# Altium schematic symbol library WE-TPC.SchLib: 258 symbols (part 2 of 5)
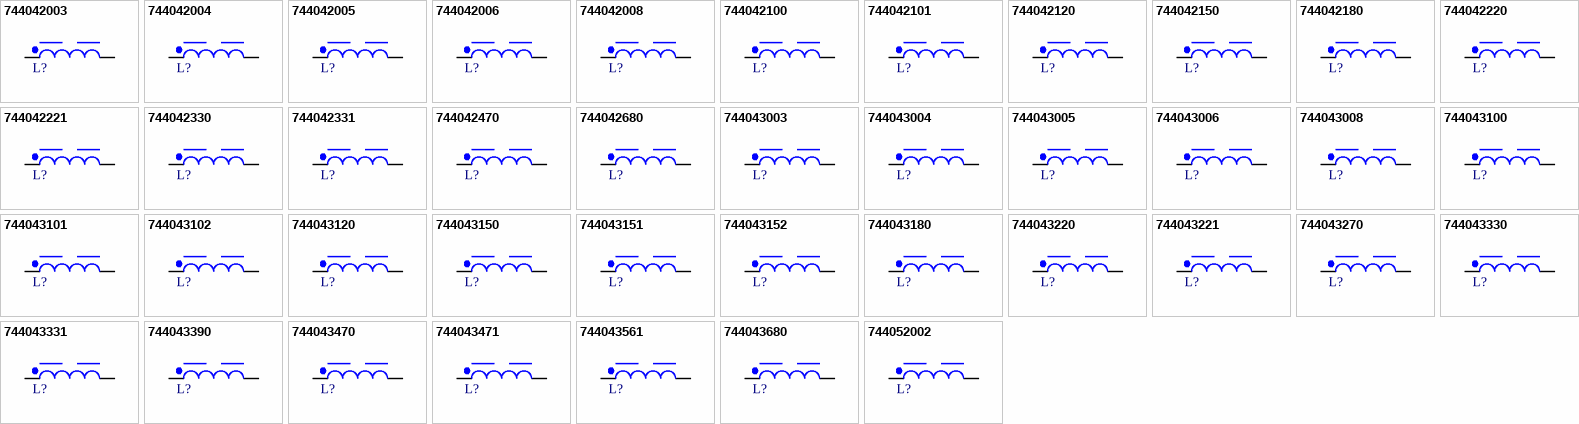
[diagram p7: symbols 744042003 to 744052002]

## 744043005
designator L?, comment 5.6uH, 1.38A  (value not drawn)
WE-TPC SMT Tiny Power Inductor, size 4828, 5.6uH, 1.38A, 70mOhm; Manufacturer Part Number: 744043005; Manufacturer: Wurth Elektronik; Case/Size Code: 4828; Saturation Current: 1.3A; Self Resonant Frequency: 60MHz; Category: Power Inductors; Match Code: WE-TPC; ComponentLink1Description: Website Link; ComponentLink1URL: https://www.we-online.com/redexpert/article/744043005?ad; ComponentLink2Description: Datasheet Link; ComponentLink2URL: https://www.we-online.com/redexpert/spec/744043005?ad; Mount: Surface Mount; Operating Temperature Max: 125°C; Operating Temperature Min: -40°C; Packaging: Tape and Reel; Length: 4.8mm; Width: 4.8mm; Height: 2.8mm; DC Resistance: 70mOhm; Inductance: 5.6uH; Rated Current: 1.38A
footprint WE-TPC_4828
simulation model 4828_744043005_5.6u
pins: 1, 2

## 744043006
designator L?, comment 6.8uH, 1.3A  (value not drawn)
WE-TPC SMT Tiny Power Inductor, size 4828, 6.8uH, 1.3A, 80mOhm; Manufacturer Part Number: 744043006; Manufacturer: Wurth Elektronik; Case/Size Code: 4828; Saturation Current: 1.25A; Self Resonant Frequency: 57MHz; Category: Power Inductors; Match Code: WE-TPC; ComponentLink1Description: Website Link; ComponentLink1URL: https://www.we-online.com/redexpert/article/744043006?ad; ComponentLink2Description: Datasheet Link; ComponentLink2URL: https://www.we-online.com/redexpert/spec/744043006?ad; Mount: Surface Mount; Operating Temperature Max: 125°C; Operating Temperature Min: -40°C; Packaging: Tape and Reel; Length: 4.8mm; Width: 4.8mm; Height: 2.8mm; DC Resistance: 80mOhm; Inductance: 6.8uH; Rated Current: 1.3A
footprint WE-TPC_4828
simulation model 4828_744043006_6.8u
pins: 1, 2

## 744043008
designator L?, comment 8.2uH, 1.3A  (value not drawn)
WE-TPC SMT Tiny Power Inductor, size 4828, 8.2uH, 1.3A, 80mOhm; Manufacturer Part Number: 744043008; Manufacturer: Wurth Elektronik; Case/Size Code: 4828; Saturation Current: 1.25A; Self Resonant Frequency: 35MHz; Category: Power Inductors; Match Code: WE-TPC; ComponentLink1Description: Website Link; ComponentLink1URL: https://www.we-online.com/redexpert/article/744043008?ad; ComponentLink2Description: Datasheet Link; ComponentLink2URL: https://www.we-online.com/redexpert/spec/744043008?ad; Mount: Surface Mount; Operating Temperature Max: 125°C; Operating Temperature Min: -40°C; Packaging: Tape and Reel; Length: 4.8mm; Width: 4.8mm; Height: 2.8mm; DC Resistance: 80mOhm; Inductance: 8.2uH; Rated Current: 1.3A
footprint WE-TPC_4828
simulation model 4828_744043008_8.2u
pins: 1, 2

## 744043100
designator L?, comment 10uH, 1.19A  (value not drawn)
WE-TPC SMT Tiny Power Inductor, size 4828, 10uH, 1.19A, 95mOhm; Manufacturer Part Number: 744043100; Manufacturer: Wurth Elektronik; Case/Size Code: 4828; Saturation Current: 1A; Self Resonant Frequency: 40MHz; Category: Power Inductors; Match Code: WE-TPC; ComponentLink1Description: Website Link; ComponentLink1URL: https://www.we-online.com/redexpert/article/744043100?ad; ComponentLink2Description: Datasheet Link; ComponentLink2URL: https://www.we-online.com/redexpert/spec/744043100?ad; Mount: Surface Mount; Operating Temperature Max: 125°C; Operating Temperature Min: -40°C; Packaging: Tape and Reel; Length: 4.8mm; Width: 4.8mm; Height: 2.8mm; DC Resistance: 95mOhm; Inductance: 10uH; Rated Current: 1.19A
footprint WE-TPC_4828
simulation model 4828_744043100_10u
pins: 1, 2

## 744043101
designator L?, comment 100uH, 0.51A  (value not drawn)
WE-TPC SMT Tiny Power Inductor, size 4828, 100uH, 0.51A, 550mOhm; Manufacturer Part Number: 744043101; Manufacturer: Wurth Elektronik; Case/Size Code: 4828; Saturation Current: 0.29A; Self Resonant Frequency: 11MHz; Category: Power Inductors; Match Code: WE-TPC; ComponentLink1Description: Website Link; ComponentLink1URL: https://www.we-online.com/redexpert/article/744043101?ad; ComponentLink2Description: Datasheet Link; ComponentLink2URL: https://www.we-online.com/redexpert/spec/744043101?ad; Mount: Surface Mount; Operating Temperature Max: 125°C; Operating Temperature Min: -40°C; Packaging: Tape and Reel; Length: 4.8mm; Width: 4.8mm; Height: 2.8mm; DC Resistance: 550mOhm; Inductance: 100uH; Rated Current: 0.51A
footprint WE-TPC_4828
simulation model 4828_744043101_100u
pins: 1, 2

## 744043102
designator L?, comment 1000uH, 0.14A  (value not drawn)
WE-TPC SMT Tiny Power Inductor, size 4828, 1000uH, 0.14A, 5400mOhm; Manufacturer Part Number: 744043102; Manufacturer: Wurth Elektronik; Case/Size Code: 4828; Saturation Current: 0.08A; Self Resonant Frequency: 2.3MHz; Category: Power Inductors; Match Code: WE-TPC; ComponentLink1Description: Website Link; ComponentLink1URL: https://www.we-online.com/redexpert/article/744043102?ad; ComponentLink2Description: Datasheet Link; ComponentLink2URL: https://www.we-online.com/redexpert/spec/744043102?ad; Mount: Surface Mount; Operating Temperature Max: 125°C; Operating Temperature Min: -40°C; Packaging: Tape and Reel; Length: 4.8mm; Width: 4.8mm; Height: 2.8mm; DC Resistance: 5400mOhm; Inductance: 1000uH; Rated Current: 0.14A
footprint WE-TPC_4828
simulation model 4828_744043102_1000u
pins: 1, 2

## 744043120
designator L?, comment 12uH, 1.12A  (value not drawn)
WE-TPC SMT Tiny Power Inductor, size 4828, 12uH, 1.12A, 100mOhm; Manufacturer Part Number: 744043120; Manufacturer: Wurth Elektronik; Case/Size Code: 4828; Saturation Current: 0.95A; Self Resonant Frequency: 30MHz; Category: Power Inductors; Match Code: WE-TPC; ComponentLink1Description: Website Link; ComponentLink1URL: https://www.we-online.com/redexpert/article/744043120?ad; ComponentLink2Description: Datasheet Link; ComponentLink2URL: https://www.we-online.com/redexpert/spec/744043120?ad; Mount: Surface Mount; Operating Temperature Max: 125°C; Operating Temperature Min: -40°C; Packaging: Tape and Reel; Length: 4.8mm; Width: 4.8mm; Height: 2.8mm; DC Resistance: 100mOhm; Inductance: 12uH; Rated Current: 1.12A
footprint WE-TPC_4828
simulation model 4828_744043120_12u
pins: 1, 2

## 744043150
designator L?, comment 15uH, 1.03A  (value not drawn)
WE-TPC SMT Tiny Power Inductor, size 4828, 15uH, 1.03A, 120mOhm; Manufacturer Part Number: 744043150; Manufacturer: Wurth Elektronik; Case/Size Code: 4828; Saturation Current: 0.75A; Self Resonant Frequency: 25MHz; Category: Power Inductors; Match Code: WE-TPC; ComponentLink1Description: Website Link; ComponentLink1URL: https://www.we-online.com/redexpert/article/744043150?ad; ComponentLink2Description: Datasheet Link; ComponentLink2URL: https://www.we-online.com/redexpert/spec/744043150?ad; Mount: Surface Mount; Operating Temperature Max: 125°C; Operating Temperature Min: -40°C; Packaging: Tape and Reel; Length: 4.8mm; Width: 4.8mm; Height: 2.8mm; DC Resistance: 120mOhm; Inductance: 15uH; Rated Current: 1.03A
footprint WE-TPC_4828
simulation model 4828_744043150_15u
pins: 1, 2

## 744043151
designator L?, comment 150uH, 0.42A  (value not drawn)
WE-TPC SMT Tiny Power Inductor, size 4828, 150uH, 0.42A, 770mOhm; Manufacturer Part Number: 744043151; Manufacturer: Wurth Elektronik; Case/Size Code: 4828; Saturation Current: 0.22A; Self Resonant Frequency: 7MHz; Category: Power Inductors; Match Code: WE-TPC; ComponentLink1Description: Website Link; ComponentLink1URL: https://www.we-online.com/redexpert/article/744043151?ad; ComponentLink2Description: Datasheet Link; ComponentLink2URL: https://www.we-online.com/redexpert/spec/744043151?ad; Mount: Surface Mount; Operating Temperature Max: 125°C; Operating Temperature Min: -40°C; Packaging: Tape and Reel; Length: 4.8mm; Width: 4.8mm; Height: 2.8mm; DC Resistance: 770mOhm; Inductance: 150uH; Rated Current: 0.42A
footprint WE-TPC_4828
simulation model 4828_744043151_150u
pins: 1, 2

## 744043152
designator L?, comment 1500uH, 0.09A  (value not drawn)
WE-TPC SMT Tiny Power Inductor, size 4828, 1500uH, 0.09A, 6800mOhm; Manufacturer Part Number: 744043152; Manufacturer: Wurth Elektronik; Case/Size Code: 4828; Saturation Current: 0.05A; Self Resonant Frequency: 2MHz; Category: Power Inductors; Match Code: WE-TPC; ComponentLink1Description: Website Link; ComponentLink1URL: https://www.we-online.com/redexpert/article/744043152?ad; ComponentLink2Description: Datasheet Link; ComponentLink2URL: https://www.we-online.com/redexpert/spec/744043152?ad; Mount: Surface Mount; Operating Temperature Max: 125°C; Operating Temperature Min: -40°C; Packaging: Tape and Reel; Length: 4.8mm; Width: 4.8mm; Height: 2.8mm; DC Resistance: 6800mOhm; Inductance: 1500uH; Rated Current: 0.09A
footprint WE-TPC_4828
simulation model 4828_744043152_1500u
pins: 1, 2

## 744043180
designator L?, comment 18uH, 0.98A  (value not drawn)
WE-TPC SMT Tiny Power Inductor, size 4828, 18uH, 0.98A, 150mOhm; Manufacturer Part Number: 744043180; Manufacturer: Wurth Elektronik; Case/Size Code: 4828; Saturation Current: 0.7A; Self Resonant Frequency: 25MHz; Category: Power Inductors; Match Code: WE-TPC; ComponentLink1Description: Website Link; ComponentLink1URL: https://www.we-online.com/redexpert/article/744043180?ad; ComponentLink2Description: Datasheet Link; ComponentLink2URL: https://www.we-online.com/redexpert/spec/744043180?ad; Mount: Surface Mount; Operating Temperature Max: 125°C; Operating Temperature Min: -40°C; Packaging: Tape and Reel; Length: 4.8mm; Width: 4.8mm; Height: 2.8mm; DC Resistance: 150mOhm; Inductance: 18uH; Rated Current: 0.98A
footprint WE-TPC_4828
simulation model 4828_744043180_18u
pins: 1, 2

## 744043220
designator L?, comment 22uH, 0.925A  (value not drawn)
WE-TPC SMT Tiny Power Inductor, size 4828, 22uH, 0.925A, 160mOhm; Manufacturer Part Number: 744043220; Manufacturer: Wurth Elektronik; Case/Size Code: 4828; Saturation Current: 0.7A; Self Resonant Frequency: 20MHz; Category: Power Inductors; Match Code: WE-TPC; ComponentLink1Description: Website Link; ComponentLink1URL: https://www.we-online.com/redexpert/article/744043220?ad; ComponentLink2Description: Datasheet Link; ComponentLink2URL: https://www.we-online.com/redexpert/spec/744043220?ad; Mount: Surface Mount; Operating Temperature Max: 125°C; Operating Temperature Min: -40°C; Packaging: Tape and Reel; Length: 4.8mm; Width: 4.8mm; Height: 2.8mm; DC Resistance: 160mOhm; Inductance: 22uH; Rated Current: 0.925A
footprint WE-TPC_4828
simulation model 4828_744043220_22u
pins: 1, 2

## 744043221
designator L?, comment 220uH, 0.34A  (value not drawn)
WE-TPC SMT Tiny Power Inductor, size 4828, 220uH, 0.34A, 1008mOhm; Manufacturer Part Number: 744043221; Manufacturer: Wurth Elektronik; Case/Size Code: 4828; Saturation Current: 0.2A; Self Resonant Frequency: 6MHz; Category: Power Inductors; Match Code: WE-TPC; ComponentLink1Description: Website Link; ComponentLink1URL: https://www.we-online.com/redexpert/article/744043221?ad; ComponentLink2Description: Datasheet Link; ComponentLink2URL: https://www.we-online.com/redexpert/spec/744043221?ad; Mount: Surface Mount; Operating Temperature Max: 125°C; Operating Temperature Min: -40°C; Packaging: Tape and Reel; Length: 4.8mm; Width: 4.8mm; Height: 2.8mm; DC Resistance: 1008mOhm; Inductance: 220uH; Rated Current: 0.34A
footprint WE-TPC_4828
simulation model 4828_744043221_220u
pins: 1, 2

## 744043270
designator L?, comment 27uH, 0.89A  (value not drawn)
WE-TPC SMT Tiny Power Inductor, size 4828, 27uH, 0.89A, 170mOhm; Manufacturer Part Number: 744043270; Manufacturer: Wurth Elektronik; Case/Size Code: 4828; Saturation Current: 0.6A; Self Resonant Frequency: 18MHz; Category: Power Inductors; Match Code: WE-TPC; ComponentLink1Description: Website Link; ComponentLink1URL: https://www.we-online.com/redexpert/article/744043270?ad; ComponentLink2Description: Datasheet Link; ComponentLink2URL: https://www.we-online.com/redexpert/spec/744043270?ad; Mount: Surface Mount; Operating Temperature Max: 125°C; Operating Temperature Min: -40°C; Packaging: Tape and Reel; Length: 4.8mm; Width: 4.8mm; Height: 2.8mm; DC Resistance: 170mOhm; Inductance: 27uH; Rated Current: 0.89A
footprint WE-TPC_4828
simulation model 4828_744043270_27u
pins: 1, 2

## 744043330
designator L?, comment 33uH, 0.82A  (value not drawn)
WE-TPC SMT Tiny Power Inductor, size 4828, 33uH, 0.82A, 195mOhm; Manufacturer Part Number: 744043330; Manufacturer: Wurth Elektronik; Case/Size Code: 4828; Saturation Current: 0.55A; Self Resonant Frequency: 16MHz; Category: Power Inductors; Match Code: WE-TPC; ComponentLink1Description: Website Link; ComponentLink1URL: https://www.we-online.com/redexpert/article/744043330?ad; ComponentLink2Description: Datasheet Link; ComponentLink2URL: https://www.we-online.com/redexpert/spec/744043330?ad; Mount: Surface Mount; Operating Temperature Max: 125°C; Operating Temperature Min: -40°C; Packaging: Tape and Reel; Length: 4.8mm; Width: 4.8mm; Height: 2.8mm; DC Resistance: 195mOhm; Inductance: 33uH; Rated Current: 0.82A
footprint WE-TPC_4828
simulation model 4828_744043330_33u
pins: 1, 2

## 744043331
designator L?, comment 330uH, 0.285A  (value not drawn)
WE-TPC SMT Tiny Power Inductor, size 4828, 330uH, 0.285A, 1630mOhm; Manufacturer Part Number: 744043331; Manufacturer: Wurth Elektronik; Case/Size Code: 4828; Saturation Current: 0.17A; Self Resonant Frequency: 4.3MHz; Category: Power Inductors; Match Code: WE-TPC; ComponentLink1Description: Website Link; ComponentLink1URL: https://www.we-online.com/redexpert/article/744043331?ad; ComponentLink2Description: Datasheet Link; ComponentLink2URL: https://www.we-online.com/redexpert/spec/744043331?ad; Mount: Surface Mount; Operating Temperature Max: 125°C; Operating Temperature Min: -40°C; Packaging: Tape and Reel; Length: 4.8mm; Width: 4.8mm; Height: 2.8mm; DC Resistance: 1630mOhm; Inductance: 330uH; Rated Current: 0.285A
footprint WE-TPC_4828
simulation model 4828_744043331_330u
pins: 1, 2

## 744043390
designator L?, comment 39uH, 0.795A  (value not drawn)
WE-TPC SMT Tiny Power Inductor, size 4828, 39uH, 0.795A, 215mOhm; Manufacturer Part Number: 744043390; Manufacturer: Wurth Elektronik; Case/Size Code: 4828; Saturation Current: 0.5A; Self Resonant Frequency: 14MHz; Category: Power Inductors; Match Code: WE-TPC; ComponentLink1Description: Website Link; ComponentLink1URL: https://www.we-online.com/redexpert/article/744043390?ad; ComponentLink2Description: Datasheet Link; ComponentLink2URL: https://www.we-online.com/redexpert/spec/744043390?ad; Mount: Surface Mount; Operating Temperature Max: 125°C; Operating Temperature Min: -40°C; Packaging: Tape and Reel; Length: 4.8mm; Width: 4.8mm; Height: 2.8mm; DC Resistance: 215mOhm; Inductance: 39uH; Rated Current: 0.795A
footprint WE-TPC_4828
simulation model 4828_744043390_39u
pins: 1, 2

## 744043470
designator L?, comment 47uH, 0.75A  (value not drawn)
WE-TPC SMT Tiny Power Inductor, size 4828, 47uH, 0.75A, 250mOhm; Manufacturer Part Number: 744043470; Manufacturer: Wurth Elektronik; Case/Size Code: 4828; Saturation Current: 0.5A; Self Resonant Frequency: 10MHz; Category: Power Inductors; Match Code: WE-TPC; ComponentLink1Description: Website Link; ComponentLink1URL: https://www.we-online.com/redexpert/article/744043470?ad; ComponentLink2Description: Datasheet Link; ComponentLink2URL: https://www.we-online.com/redexpert/spec/744043470?ad; Mount: Surface Mount; Operating Temperature Max: 125°C; Operating Temperature Min: -40°C; Packaging: Tape and Reel; Length: 4.8mm; Width: 4.8mm; Height: 2.8mm; DC Resistance: 250mOhm; Inductance: 47uH; Rated Current: 0.75A
footprint WE-TPC_4828
simulation model 4828_744043470_47u
pins: 1, 2

## 744043471
designator L?, comment 470uH, 0.24A  (value not drawn)
WE-TPC SMT Tiny Power Inductor, size 4828, 470uH, 0.24A, 2128mOhm; Manufacturer Part Number: 744043471; Manufacturer: Wurth Elektronik; Case/Size Code: 4828; Saturation Current: 0.125A; Self Resonant Frequency: 3MHz; Category: Power Inductors; Match Code: WE-TPC; ComponentLink1Description: Website Link; ComponentLink1URL: https://www.we-online.com/redexpert/article/744043471?ad; ComponentLink2Description: Datasheet Link; ComponentLink2URL: https://www.we-online.com/redexpert/spec/744043471?ad; Mount: Surface Mount; Operating Temperature Max: 125°C; Operating Temperature Min: -40°C; Packaging: Tape and Reel; Length: 4.8mm; Width: 4.8mm; Height: 2.8mm; DC Resistance: 2128mOhm; Inductance: 470uH; Rated Current: 0.24A
footprint WE-TPC_4828
simulation model 4828_744043471_470u
pins: 1, 2

## 744043561
designator L?, comment 560uH, 0.22A  (value not drawn)
WE-TPC SMT Tiny Power Inductor, size 4828, 560uH, 0.22A, 2610mOhm; Manufacturer Part Number: 744043561; Manufacturer: Wurth Elektronik; Case/Size Code: 4828; Saturation Current: 0.11A; Self Resonant Frequency: 3MHz; Category: Power Inductors; Match Code: WE-TPC; ComponentLink1Description: Website Link; ComponentLink1URL: https://www.we-online.com/redexpert/article/744043561?ad; ComponentLink2Description: Datasheet Link; ComponentLink2URL: https://www.we-online.com/redexpert/spec/744043561?ad; Mount: Surface Mount; Operating Temperature Max: 125°C; Operating Temperature Min: -40°C; Packaging: Tape and Reel; Length: 4.8mm; Width: 4.8mm; Height: 2.8mm; DC Resistance: 2610mOhm; Inductance: 560uH; Rated Current: 0.22A
footprint WE-TPC_4828
simulation model 4828_744043561_560u
pins: 1, 2

## 744043680
designator L?, comment 68uH, 0.63A  (value not drawn)
WE-TPC SMT Tiny Power Inductor, size 4828, 68uH, 0.63A, 340mOhm; Manufacturer Part Number: 744043680; Manufacturer: Wurth Elektronik; Case/Size Code: 4828; Saturation Current: 0.4A; Self Resonant Frequency: 13MHz; Category: Power Inductors; Match Code: WE-TPC; ComponentLink1Description: Website Link; ComponentLink1URL: https://www.we-online.com/redexpert/article/744043680?ad; ComponentLink2Description: Datasheet Link; ComponentLink2URL: https://www.we-online.com/redexpert/spec/744043680?ad; Mount: Surface Mount; Operating Temperature Max: 125°C; Operating Temperature Min: -40°C; Packaging: Tape and Reel; Length: 4.8mm; Width: 4.8mm; Height: 2.8mm; DC Resistance: 340mOhm; Inductance: 68uH; Rated Current: 0.63A
footprint WE-TPC_4828
simulation model 4828_744043680_68u
pins: 1, 2

## 744052002
designator L?, comment 2.5uH, 2.4A  (value not drawn)
WE-TPC SMT Tiny Power Inductor, size 5818, 2.5uH, 2.4A, 30mOhm; Manufacturer Part Number: 744052002; Manufacturer: Wurth Elektronik; Case/Size Code: 5818; Saturation Current: 2.7A; Self Resonant Frequency: 85MHz; Category: Power Inductors; Match Code: WE-TPC; ComponentLink1Description: Website Link; ComponentLink1URL: https://www.we-online.com/redexpert/article/744052002?ad; ComponentLink2Description: Datasheet Link; ComponentLink2URL: https://www.we-online.com/redexpert/spec/744052002?ad; Mount: Surface Mount; Operating Temperature Max: 125°C; Operating Temperature Min: -40°C; Packaging: Tape and Reel; Length: 5.8mm; Width: 5.8mm; Height: 1.8mm; DC Resistance: 30mOhm; Inductance: 2.5uH; Rated Current: 2.4A
footprint WE-TPC_5818
simulation model 5818_744052002_2.5u
pins: 1, 2

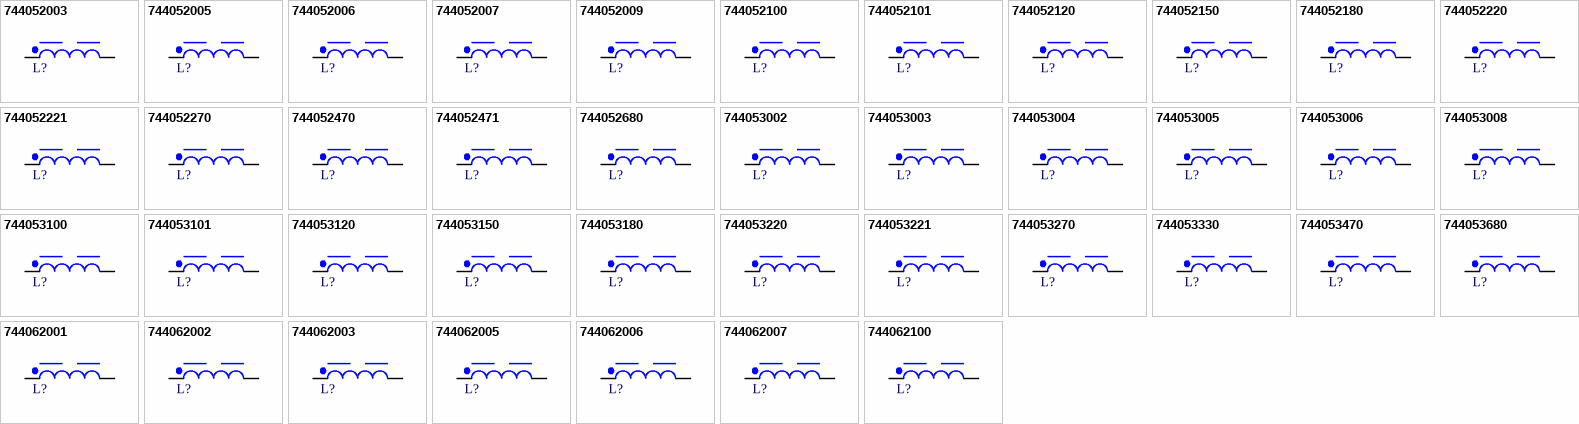
[diagram p2: symbols 744052003 to 744062100]

## 744052003
designator L?, comment 3uH, 2.2A  (value not drawn)
WE-TPC SMT Tiny Power Inductor, size 5818, 3uH, 2.2A, 35mOhm; Manufacturer Part Number: 744052003; Manufacturer: Wurth Elektronik; Case/Size Code: 5818; Saturation Current: 2.4A; Self Resonant Frequency: 70MHz; Category: Power Inductors; Match Code: WE-TPC; ComponentLink1Description: Website Link; ComponentLink1URL: https://www.we-online.com/redexpert/article/744052003?ad; ComponentLink2Description: Datasheet Link; ComponentLink2URL: https://www.we-online.com/redexpert/spec/744052003?ad; Mount: Surface Mount; Operating Temperature Max: 125°C; Operating Temperature Min: -40°C; Packaging: Tape and Reel; Length: 5.8mm; Width: 5.8mm; Height: 1.8mm; DC Resistance: 35mOhm; Inductance: 3uH; Rated Current: 2.2A
footprint WE-TPC_5818
simulation model 5818_744052003_3u
pins: 1, 2

## 744052005
designator L?, comment 5uH, 1.65A  (value not drawn)
WE-TPC SMT Tiny Power Inductor, size 5818, 5uH, 1.65A, 50mOhm; Manufacturer Part Number: 744052005; Manufacturer: Wurth Elektronik; Case/Size Code: 5818; Saturation Current: 1.8A; Self Resonant Frequency: 55MHz; Category: Power Inductors; Match Code: WE-TPC; ComponentLink1Description: Website Link; ComponentLink1URL: https://www.we-online.com/redexpert/article/744052005?ad; ComponentLink2Description: Datasheet Link; ComponentLink2URL: https://www.we-online.com/redexpert/spec/744052005?ad; Mount: Surface Mount; Operating Temperature Max: 125°C; Operating Temperature Min: -40°C; Packaging: Tape and Reel; Length: 5.8mm; Width: 5.8mm; Height: 1.8mm; DC Resistance: 50mOhm; Inductance: 5uH; Rated Current: 1.65A
footprint WE-TPC_5818
simulation model 5818_744052005_5u
pins: 1, 2

## 744052006
designator L?, comment 6.2uH, 1.45A  (value not drawn)
WE-TPC SMT Tiny Power Inductor, size 5818, 6.2uH, 1.45A, 70mOhm; Manufacturer Part Number: 744052006; Manufacturer: Wurth Elektronik; Case/Size Code: 5818; Saturation Current: 1.6A; Self Resonant Frequency: 45MHz; Category: Power Inductors; Match Code: WE-TPC; ComponentLink1Description: Website Link; ComponentLink1URL: https://www.we-online.com/redexpert/article/744052006?ad; ComponentLink2Description: Datasheet Link; ComponentLink2URL: https://www.we-online.com/redexpert/spec/744052006?ad; Mount: Surface Mount; Operating Temperature Max: 125°C; Operating Temperature Min: -40°C; Packaging: Tape and Reel; Length: 5.8mm; Width: 5.8mm; Height: 1.8mm; DC Resistance: 70mOhm; Inductance: 6.2uH; Rated Current: 1.45A
footprint WE-TPC_5818
simulation model 5818_744052006_6.2u
pins: 1, 2

## 744052007
designator L?, comment 7.5uH, 1.35A  (value not drawn)
WE-TPC SMT Tiny Power Inductor, size 5818, 7.5uH, 1.35A, 70mOhm; Manufacturer Part Number: 744052007; Manufacturer: Wurth Elektronik; Case/Size Code: 5818; Saturation Current: 1.5A; Self Resonant Frequency: 45MHz; Category: Power Inductors; Match Code: WE-TPC; ComponentLink1Description: Website Link; ComponentLink1URL: https://www.we-online.com/redexpert/article/744052007?ad; ComponentLink2Description: Datasheet Link; ComponentLink2URL: https://www.we-online.com/redexpert/spec/744052007?ad; Mount: Surface Mount; Operating Temperature Max: 125°C; Operating Temperature Min: -40°C; Packaging: Tape and Reel; Length: 5.8mm; Width: 5.8mm; Height: 1.8mm; DC Resistance: 70mOhm; Inductance: 7.5uH; Rated Current: 1.35A
footprint WE-TPC_5818
simulation model 5818_744052007_7.5u
pins: 1, 2

## 744052009
designator L?, comment 9uH, 1.25A  (value not drawn)
WE-TPC SMT Tiny Power Inductor, size 5818, 9uH, 1.25A, 90mOhm; Manufacturer Part Number: 744052009; Manufacturer: Wurth Elektronik; Case/Size Code: 5818; Saturation Current: 1.35A; Self Resonant Frequency: 40MHz; Category: Power Inductors; Match Code: WE-TPC; ComponentLink1Description: Website Link; ComponentLink1URL: https://www.we-online.com/redexpert/article/744052009?ad; ComponentLink2Description: Datasheet Link; ComponentLink2URL: https://www.we-online.com/redexpert/spec/744052009?ad; Mount: Surface Mount; Operating Temperature Max: 125°C; Operating Temperature Min: -40°C; Packaging: Tape and Reel; Length: 5.8mm; Width: 5.8mm; Height: 1.8mm; DC Resistance: 90mOhm; Inductance: 9uH; Rated Current: 1.25A
footprint WE-TPC_5818
simulation model 5818_744052009_9u
pins: 1, 2

## 744052100
designator L?, comment 10uH, 1.1A  (value not drawn)
WE-TPC SMT Tiny Power Inductor, size 5818, 10uH, 1.1A, 105mOhm; Manufacturer Part Number: 744052100; Manufacturer: Wurth Elektronik; Case/Size Code: 5818; Saturation Current: 1.25A; Self Resonant Frequency: 40MHz; Category: Power Inductors; Match Code: WE-TPC; ComponentLink1Description: Website Link; ComponentLink1URL: https://www.we-online.com/redexpert/article/744052100?ad; ComponentLink2Description: Datasheet Link; ComponentLink2URL: https://www.we-online.com/redexpert/spec/744052100?ad; Mount: Surface Mount; Operating Temperature Max: 125°C; Operating Temperature Min: -40°C; Packaging: Tape and Reel; Length: 5.8mm; Width: 5.8mm; Height: 1.8mm; DC Resistance: 105mOhm; Inductance: 10uH; Rated Current: 1.1A
footprint WE-TPC_5818
simulation model 5818_744052100_10u
pins: 1, 2

## 744052101
designator L?, comment 100uH, 0.35A  (value not drawn)
WE-TPC SMT Tiny Power Inductor, size 5818, 100uH, 0.35A, 815mOhm; Manufacturer Part Number: 744052101; Manufacturer: Wurth Elektronik; Case/Size Code: 5818; Saturation Current: 0.42A; Self Resonant Frequency: 12MHz; Category: Power Inductors; Match Code: WE-TPC; ComponentLink1Description: Website Link; ComponentLink1URL: https://www.we-online.com/redexpert/article/744052101?ad; ComponentLink2Description: Datasheet Link; ComponentLink2URL: https://www.we-online.com/redexpert/spec/744052101?ad; Mount: Surface Mount; Operating Temperature Max: 125°C; Operating Temperature Min: -40°C; Packaging: Tape and Reel; Length: 5.8mm; Width: 5.8mm; Height: 1.8mm; DC Resistance: 815mOhm; Inductance: 100uH; Rated Current: 0.35A
footprint WE-TPC_5818
simulation model 5818_744052101_100u
pins: 1, 2

## 744052120
designator L?, comment 12uH, 1A  (value not drawn)
WE-TPC SMT Tiny Power Inductor, size 5818, 12uH, 1A, 130mOhm; Manufacturer Part Number: 744052120; Manufacturer: Wurth Elektronik; Case/Size Code: 5818; Saturation Current: 1.15A; Self Resonant Frequency: 35MHz; Category: Power Inductors; Match Code: WE-TPC; ComponentLink1Description: Website Link; ComponentLink1URL: https://www.we-online.com/redexpert/article/744052120?ad; ComponentLink2Description: Datasheet Link; ComponentLink2URL: https://www.we-online.com/redexpert/spec/744052120?ad; Mount: Surface Mount; Operating Temperature Max: 125°C; Operating Temperature Min: -40°C; Packaging: Tape and Reel; Length: 5.8mm; Width: 5.8mm; Height: 1.8mm; DC Resistance: 130mOhm; Inductance: 12uH; Rated Current: 1A
footprint WE-TPC_5818
simulation model 5818_744052120_12u
pins: 1, 2

## 744052150
designator L?, comment 15uH, 0.95A  (value not drawn)
WE-TPC SMT Tiny Power Inductor, size 5818, 15uH, 0.95A, 150mOhm; Manufacturer Part Number: 744052150; Manufacturer: Wurth Elektronik; Case/Size Code: 5818; Saturation Current: 1.1A; Self Resonant Frequency: 30MHz; Category: Power Inductors; Match Code: WE-TPC; ComponentLink1Description: Website Link; ComponentLink1URL: https://www.we-online.com/redexpert/article/744052150?ad; ComponentLink2Description: Datasheet Link; ComponentLink2URL: https://www.we-online.com/redexpert/spec/744052150?ad; Mount: Surface Mount; Operating Temperature Max: 125°C; Operating Temperature Min: -40°C; Packaging: Tape and Reel; Length: 5.8mm; Width: 5.8mm; Height: 1.8mm; DC Resistance: 150mOhm; Inductance: 15uH; Rated Current: 0.95A
footprint WE-TPC_5818
simulation model 5818_744052150_15u
pins: 1, 2

## 744052180
designator L?, comment 18uH, 0.9A  (value not drawn)
WE-TPC SMT Tiny Power Inductor, size 5818, 18uH, 0.9A, 185mOhm; Manufacturer Part Number: 744052180; Manufacturer: Wurth Elektronik; Case/Size Code: 5818; Saturation Current: 1A; Self Resonant Frequency: 30MHz; Category: Power Inductors; Match Code: WE-TPC; ComponentLink1Description: Website Link; ComponentLink1URL: https://www.we-online.com/redexpert/article/744052180?ad; ComponentLink2Description: Datasheet Link; ComponentLink2URL: https://www.we-online.com/redexpert/spec/744052180?ad; Mount: Surface Mount; Operating Temperature Max: 125°C; Operating Temperature Min: -40°C; Packaging: Tape and Reel; Length: 5.8mm; Width: 5.8mm; Height: 1.8mm; DC Resistance: 185mOhm; Inductance: 18uH; Rated Current: 0.9A
footprint WE-TPC_5818
simulation model 5818_744052180_18u
pins: 1, 2

## 744052220
designator L?, comment 22uH, 0.8A  (value not drawn)
WE-TPC SMT Tiny Power Inductor, size 5818, 22uH, 0.8A, 240mOhm; Manufacturer Part Number: 744052220; Manufacturer: Wurth Elektronik; Case/Size Code: 5818; Saturation Current: 0.9A; Self Resonant Frequency: 25MHz; Category: Power Inductors; Match Code: WE-TPC; ComponentLink1Description: Website Link; ComponentLink1URL: https://www.we-online.com/redexpert/article/744052220?ad; ComponentLink2Description: Datasheet Link; ComponentLink2URL: https://www.we-online.com/redexpert/spec/744052220?ad; Mount: Surface Mount; Operating Temperature Max: 125°C; Operating Temperature Min: -40°C; Packaging: Tape and Reel; Length: 5.8mm; Width: 5.8mm; Height: 1.8mm; DC Resistance: 240mOhm; Inductance: 22uH; Rated Current: 0.8A
footprint WE-TPC_5818
simulation model 5818_744052220_22u
pins: 1, 2

## 744052221
designator L?, comment 220uH, 0.23A  (value not drawn)
WE-TPC SMT Tiny Power Inductor, size 5818, 220uH, 0.23A, 1890mOhm; Manufacturer Part Number: 744052221; Manufacturer: Wurth Elektronik; Case/Size Code: 5818; Saturation Current: 0.3A; Self Resonant Frequency: 7MHz; Category: Power Inductors; Match Code: WE-TPC; ComponentLink1Description: Website Link; ComponentLink1URL: https://www.we-online.com/redexpert/article/744052221?ad; ComponentLink2Description: Datasheet Link; ComponentLink2URL: https://www.we-online.com/redexpert/spec/744052221?ad; Mount: Surface Mount; Operating Temperature Max: 125°C; Operating Temperature Min: -40°C; Packaging: Tape and Reel; Length: 5.8mm; Width: 5.8mm; Height: 1.8mm; DC Resistance: 1890mOhm; Inductance: 220uH; Rated Current: 0.23A
footprint WE-TPC_5818
simulation model 5818_744052221_220u
pins: 1, 2

## 744052270
designator L?, comment 27uH, 0.78A  (value not drawn)
WE-TPC SMT Tiny Power Inductor, size 5818, 27uH, 0.78A, 250mOhm; Manufacturer Part Number: 744052270; Manufacturer: Wurth Elektronik; Case/Size Code: 5818; Saturation Current: 0.8A; Self Resonant Frequency: 26MHz; Category: Power Inductors; Match Code: WE-TPC; ComponentLink1Description: Website Link; ComponentLink1URL: https://www.we-online.com/redexpert/article/744052270?ad; ComponentLink2Description: Datasheet Link; ComponentLink2URL: https://www.we-online.com/redexpert/spec/744052270?ad; Mount: Surface Mount; Operating Temperature Max: 125°C; Operating Temperature Min: -40°C; Packaging: Tape and Reel; Length: 5.8mm; Width: 5.8mm; Height: 1.8mm; DC Resistance: 250mOhm; Inductance: 27uH; Rated Current: 0.78A
footprint WE-TPC_5818
simulation model 5818_744052270_27u
pins: 1, 2

## 744052470
designator L?, comment 47uH, 0.77A  (value not drawn)
WE-TPC SMT Tiny Power Inductor, size 5818, 47uH, 0.77A, 530mOhm; Manufacturer Part Number: 744052470; Manufacturer: Wurth Elektronik; Case/Size Code: 5818; Saturation Current: 0.7A; Self Resonant Frequency: 18MHz; Category: Power Inductors; Match Code: WE-TPC; ComponentLink1Description: Website Link; ComponentLink1URL: https://www.we-online.com/redexpert/article/744052470?ad; ComponentLink2Description: Datasheet Link; ComponentLink2URL: https://www.we-online.com/redexpert/spec/744052470?ad; Mount: Surface Mount; Operating Temperature Max: 125°C; Operating Temperature Min: -40°C; Packaging: Tape and Reel; Length: 5.8mm; Width: 5.8mm; Height: 1.8mm; DC Resistance: 530mOhm; Inductance: 47uH; Rated Current: 0.77A
footprint WE-TPC_5818
simulation model 5818_744052470_47u
pins: 1, 2

## 744052471
designator L?, comment 470uH, 0.14A  (value not drawn)
WE-TPC SMT Tiny Power Inductor, size 5818, 470uH, 0.14A, 4175mOhm; Manufacturer Part Number: 744052471; Manufacturer: Wurth Elektronik; Case/Size Code: 5818; Saturation Current: 0.18A; Self Resonant Frequency: 4MHz; Category: Power Inductors; Match Code: WE-TPC; ComponentLink1Description: Website Link; ComponentLink1URL: https://www.we-online.com/redexpert/article/744052471?ad; ComponentLink2Description: Datasheet Link; ComponentLink2URL: https://www.we-online.com/redexpert/spec/744052471?ad; Mount: Surface Mount; Operating Temperature Max: 125°C; Operating Temperature Min: -40°C; Packaging: Tape and Reel; Length: 5.8mm; Width: 5.8mm; Height: 1.8mm; DC Resistance: 4175mOhm; Inductance: 470uH; Rated Current: 0.14A
footprint WE-TPC_5818
simulation model 5818_744052471_470u
pins: 1, 2

## 744052680
designator L?, comment 68uH, 0.64A  (value not drawn)
WE-TPC SMT Tiny Power Inductor, size 5818, 68uH, 0.64A, 840mOhm; Manufacturer Part Number: 744052680; Manufacturer: Wurth Elektronik; Case/Size Code: 5818; Saturation Current: 0.5A; Self Resonant Frequency: 14MHz; Category: Power Inductors; Match Code: WE-TPC; ComponentLink1Description: Website Link; ComponentLink1URL: https://www.we-online.com/redexpert/article/744052680?ad; ComponentLink2Description: Datasheet Link; ComponentLink2URL: https://www.we-online.com/redexpert/spec/744052680?ad; Mount: Surface Mount; Operating Temperature Max: 125°C; Operating Temperature Min: -40°C; Packaging: Tape and Reel; Length: 5.8mm; Width: 5.8mm; Height: 1.8mm; DC Resistance: 840mOhm; Inductance: 68uH; Rated Current: 0.64A
footprint WE-TPC_5818
simulation model 5818_744052680_68u
pins: 1, 2

## 744053002
designator L?, comment 2.6uH, 3A  (value not drawn)
WE-TPC SMT Tiny Power Inductor, size 5828, 2.6uH, 3A, 20mOhm; Manufacturer Part Number: 744053002; Manufacturer: Wurth Elektronik; Case/Size Code: 5828; Saturation Current: 2.7A; Self Resonant Frequency: 55MHz; Category: Power Inductors; Match Code: WE-TPC; ComponentLink1Description: Website Link; ComponentLink1URL: https://www.we-online.com/redexpert/article/744053002?ad; ComponentLink2Description: Datasheet Link; ComponentLink2URL: https://www.we-online.com/redexpert/spec/744053002?ad; Mount: Surface Mount; Operating Temperature Max: 125°C; Operating Temperature Min: -40°C; Packaging: Tape and Reel; Length: 5.8mm; Width: 5.8mm; Height: 2.8mm; DC Resistance: 20mOhm; Inductance: 2.6uH; Rated Current: 3A
footprint WE-TPC_5828
simulation model 5828_744053002_2.6u
pins: 1, 2

## 744053003
designator L?, comment 3uH, 2.8A  (value not drawn)
WE-TPC SMT Tiny Power Inductor, size 5828, 3uH, 2.8A, 20mOhm; Manufacturer Part Number: 744053003; Manufacturer: Wurth Elektronik; Case/Size Code: 5828; Saturation Current: 2.5A; Self Resonant Frequency: 70MHz; Category: Power Inductors; Match Code: WE-TPC; ComponentLink1Description: Website Link; ComponentLink1URL: https://www.we-online.com/redexpert/article/744053003?ad; ComponentLink2Description: Datasheet Link; ComponentLink2URL: https://www.we-online.com/redexpert/spec/744053003?ad; Mount: Surface Mount; Operating Temperature Max: 125°C; Operating Temperature Min: -40°C; Packaging: Tape and Reel; Length: 5.8mm; Width: 5.8mm; Height: 2.8mm; DC Resistance: 20mOhm; Inductance: 3uH; Rated Current: 2.8A
footprint WE-TPC_5828
simulation model 5828_744053003_3u
pins: 1, 2

## 744053004
designator L?, comment 4.2uH, 2.5A  (value not drawn)
WE-TPC SMT Tiny Power Inductor, size 5828, 4.2uH, 2.5A, 30mOhm; Manufacturer Part Number: 744053004; Manufacturer: Wurth Elektronik; Case/Size Code: 5828; Saturation Current: 2.2A; Self Resonant Frequency: 45MHz; Category: Power Inductors; Match Code: WE-TPC; ComponentLink1Description: Website Link; ComponentLink1URL: https://www.we-online.com/redexpert/article/744053004?ad; ComponentLink2Description: Datasheet Link; ComponentLink2URL: https://www.we-online.com/redexpert/spec/744053004?ad; Mount: Surface Mount; Operating Temperature Max: 125°C; Operating Temperature Min: -40°C; Packaging: Tape and Reel; Length: 5.8mm; Width: 5.8mm; Height: 2.8mm; DC Resistance: 30mOhm; Inductance: 4.2uH; Rated Current: 2.5A
footprint WE-TPC_5828
simulation model 5828_744053004_4.2u
pins: 1, 2

## 744053005
designator L?, comment 5.3uH, 2.3A  (value not drawn)
WE-TPC SMT Tiny Power Inductor, size 5828, 5.3uH, 2.3A, 30mOhm; Manufacturer Part Number: 744053005; Manufacturer: Wurth Elektronik; Case/Size Code: 5828; Saturation Current: 1.9A; Self Resonant Frequency: 45MHz; Category: Power Inductors; Match Code: WE-TPC; ComponentLink1Description: Website Link; ComponentLink1URL: https://www.we-online.com/redexpert/article/744053005?ad; ComponentLink2Description: Datasheet Link; ComponentLink2URL: https://www.we-online.com/redexpert/spec/744053005?ad; Mount: Surface Mount; Operating Temperature Max: 125°C; Operating Temperature Min: -40°C; Packaging: Tape and Reel; Length: 5.8mm; Width: 5.8mm; Height: 2.8mm; DC Resistance: 30mOhm; Inductance: 5.3uH; Rated Current: 2.3A
footprint WE-TPC_5828
simulation model 5828_744053005_5.3u
pins: 1, 2

## 744053006
designator L?, comment 6.2uH, 2.2A  (value not drawn)
WE-TPC SMT Tiny Power Inductor, size 5828, 6.2uH, 2.2A, 40mOhm; Manufacturer Part Number: 744053006; Manufacturer: Wurth Elektronik; Case/Size Code: 5828; Saturation Current: 1.7A; Self Resonant Frequency: 38MHz; Category: Power Inductors; Match Code: WE-TPC; ComponentLink1Description: Website Link; ComponentLink1URL: https://www.we-online.com/redexpert/article/744053006?ad; ComponentLink2Description: Datasheet Link; ComponentLink2URL: https://www.we-online.com/redexpert/spec/744053006?ad; Mount: Surface Mount; Operating Temperature Max: 125°C; Operating Temperature Min: -40°C; Packaging: Tape and Reel; Length: 5.8mm; Width: 5.8mm; Height: 2.8mm; DC Resistance: 40mOhm; Inductance: 6.2uH; Rated Current: 2.2A
footprint WE-TPC_5828
simulation model 5828_744053006_6.2u
pins: 1, 2

## 744053008
designator L?, comment 8.2uH, 2.1A  (value not drawn)
WE-TPC SMT Tiny Power Inductor, size 5828, 8.2uH, 2.1A, 50mOhm; Manufacturer Part Number: 744053008; Manufacturer: Wurth Elektronik; Case/Size Code: 5828; Saturation Current: 1.6A; Self Resonant Frequency: 28MHz; Category: Power Inductors; Match Code: WE-TPC; ComponentLink1Description: Website Link; ComponentLink1URL: https://www.we-online.com/redexpert/article/744053008?ad; ComponentLink2Description: Datasheet Link; ComponentLink2URL: https://www.we-online.com/redexpert/spec/744053008?ad; Mount: Surface Mount; Operating Temperature Max: 125°C; Operating Temperature Min: -40°C; Packaging: Tape and Reel; Length: 5.8mm; Width: 5.8mm; Height: 2.8mm; DC Resistance: 50mOhm; Inductance: 8.2uH; Rated Current: 2.1A
footprint WE-TPC_5828
simulation model 5828_744053008_8.2u
pins: 1, 2

## 744053100
designator L?, comment 10uH, 1.5A  (value not drawn)
WE-TPC SMT Tiny Power Inductor, size 5828, 10uH, 1.5A, 60mOhm; Manufacturer Part Number: 744053100; Manufacturer: Wurth Elektronik; Case/Size Code: 5828; Saturation Current: 1.4A; Self Resonant Frequency: 35MHz; Category: Power Inductors; Match Code: WE-TPC; ComponentLink1Description: Website Link; ComponentLink1URL: https://www.we-online.com/redexpert/article/744053100?ad; ComponentLink2Description: Datasheet Link; ComponentLink2URL: https://www.we-online.com/redexpert/spec/744053100?ad; Mount: Surface Mount; Operating Temperature Max: 125°C; Operating Temperature Min: -40°C; Packaging: Tape and Reel; Length: 5.8mm; Width: 5.8mm; Height: 2.8mm; DC Resistance: 60mOhm; Inductance: 10uH; Rated Current: 1.5A
footprint WE-TPC_5828
simulation model 5828_744053100_10u
pins: 1, 2

## 744053101
designator L?, comment 100uH, 0.45A  (value not drawn)
WE-TPC SMT Tiny Power Inductor, size 5828, 100uH, 0.45A, 400mOhm; Manufacturer Part Number: 744053101; Manufacturer: Wurth Elektronik; Case/Size Code: 5828; Self Resonant Frequency: 10MHz; Category: Power Inductors; Match Code: WE-TPC; ComponentLink1Description: Website Link; ComponentLink1URL: https://www.we-online.com/redexpert/article/744053101?ad; ComponentLink2Description: Datasheet Link; ComponentLink2URL: https://www.we-online.com/redexpert/spec/744053101?ad; Mount: Surface Mount; Operating Temperature Max: 125°C; Operating Temperature Min: -40°C; Packaging: Tape and Reel; Length: 5.8mm; Width: 5.8mm; Height: 2.8mm; DC Resistance: 400mOhm; Inductance: 100uH; Rated Current: 0.45A; Saturation Current: 0.45A
footprint WE-TPC_5828
simulation model 5828_744053101_100u
pins: 1, 2

## 744053120
designator L?, comment 12uH, 1.46A  (value not drawn)
WE-TPC SMT Tiny Power Inductor, size 5828, 12uH, 1.46A, 70mOhm; Manufacturer Part Number: 744053120; Manufacturer: Wurth Elektronik; Case/Size Code: 5828; Saturation Current: 1.25A; Self Resonant Frequency: 22MHz; Category: Power Inductors; Match Code: WE-TPC; ComponentLink1Description: Website Link; ComponentLink1URL: https://www.we-online.com/redexpert/article/744053120?ad; ComponentLink2Description: Datasheet Link; ComponentLink2URL: https://www.we-online.com/redexpert/spec/744053120?ad; Mount: Surface Mount; Operating Temperature Max: 125°C; Operating Temperature Min: -40°C; Packaging: Tape and Reel; Length: 5.8mm; Width: 5.8mm; Height: 2.8mm; DC Resistance: 70mOhm; Inductance: 12uH; Rated Current: 1.46A
footprint WE-TPC_5828
simulation model 5828_744053120_12u
pins: 1, 2

## 744053150
designator L?, comment 15uH, 1.38A  (value not drawn)
WE-TPC SMT Tiny Power Inductor, size 5828, 15uH, 1.38A, 80mOhm; Manufacturer Part Number: 744053150; Manufacturer: Wurth Elektronik; Case/Size Code: 5828; Saturation Current: 1.15A; Self Resonant Frequency: 20MHz; Category: Power Inductors; Match Code: WE-TPC; ComponentLink1Description: Website Link; ComponentLink1URL: https://www.we-online.com/redexpert/article/744053150?ad; ComponentLink2Description: Datasheet Link; ComponentLink2URL: https://www.we-online.com/redexpert/spec/744053150?ad; Mount: Surface Mount; Operating Temperature Max: 125°C; Operating Temperature Min: -40°C; Packaging: Tape and Reel; Length: 5.8mm; Width: 5.8mm; Height: 2.8mm; DC Resistance: 80mOhm; Inductance: 15uH; Rated Current: 1.38A
footprint WE-TPC_5828
simulation model 5828_744053150_15u
pins: 1, 2

## 744053180
designator L?, comment 18uH, 1.25A  (value not drawn)
WE-TPC SMT Tiny Power Inductor, size 5828, 18uH, 1.25A, 90mOhm; Manufacturer Part Number: 744053180; Manufacturer: Wurth Elektronik; Case/Size Code: 5828; Saturation Current: 1.1A; Self Resonant Frequency: 20MHz; Category: Power Inductors; Match Code: WE-TPC; ComponentLink1Description: Website Link; ComponentLink1URL: https://www.we-online.com/redexpert/article/744053180?ad; ComponentLink2Description: Datasheet Link; ComponentLink2URL: https://www.we-online.com/redexpert/spec/744053180?ad; Mount: Surface Mount; Operating Temperature Max: 125°C; Operating Temperature Min: -40°C; Packaging: Tape and Reel; Length: 5.8mm; Width: 5.8mm; Height: 2.8mm; DC Resistance: 90mOhm; Inductance: 18uH; Rated Current: 1.25A
footprint WE-TPC_5828
simulation model 5828_744053180_18u
pins: 1, 2

## 744053220
designator L?, comment 22uH, 1.15A  (value not drawn)
WE-TPC SMT Tiny Power Inductor, size 5828, 22uH, 1.15A, 100mOhm; Manufacturer Part Number: 744053220; Manufacturer: Wurth Elektronik; Case/Size Code: 5828; Saturation Current: 0.9A; Self Resonant Frequency: 20MHz; Category: Power Inductors; Match Code: WE-TPC; ComponentLink1Description: Website Link; ComponentLink1URL: https://www.we-online.com/redexpert/article/744053220?ad; ComponentLink2Description: Datasheet Link; ComponentLink2URL: https://www.we-online.com/redexpert/spec/744053220?ad; Mount: Surface Mount; Operating Temperature Max: 125°C; Operating Temperature Min: -40°C; Packaging: Tape and Reel; Length: 5.8mm; Width: 5.8mm; Height: 2.8mm; DC Resistance: 100mOhm; Inductance: 22uH; Rated Current: 1.15A
footprint WE-TPC_5828
simulation model 5828_744053220_22u
pins: 1, 2

## 744053221
designator L?, comment 220uH, 0.3A  (value not drawn)
WE-TPC SMT Tiny Power Inductor, size 5828, 220uH, 0.3A, 1170mOhm; Manufacturer Part Number: 744053221; Manufacturer: Wurth Elektronik; Case/Size Code: 5828; Saturation Current: 0.29A; Self Resonant Frequency: 6MHz; Category: Power Inductors; Match Code: WE-TPC; ComponentLink1Description: Website Link; ComponentLink1URL: https://www.we-online.com/redexpert/article/744053221?ad; ComponentLink2Description: Datasheet Link; ComponentLink2URL: https://www.we-online.com/redexpert/spec/744053221?ad; Mount: Surface Mount; Operating Temperature Max: 125°C; Operating Temperature Min: -40°C; Packaging: Tape and Reel; Length: 5.8mm; Width: 5.8mm; Height: 2.8mm; DC Resistance: 1170mOhm; Inductance: 220uH; Rated Current: 0.3A
footprint WE-TPC_5828
simulation model 5828_744053221_220u
pins: 1, 2

## 744053270
designator L?, comment 27uH, 1.05A  (value not drawn)
WE-TPC SMT Tiny Power Inductor, size 5828, 27uH, 1.05A, 135mOhm; Manufacturer Part Number: 744053270; Manufacturer: Wurth Elektronik; Case/Size Code: 5828; Saturation Current: 0.8A; Self Resonant Frequency: 15MHz; Category: Power Inductors; Match Code: WE-TPC; ComponentLink1Description: Website Link; ComponentLink1URL: https://www.we-online.com/redexpert/article/744053270?ad; ComponentLink2Description: Datasheet Link; ComponentLink2URL: https://www.we-online.com/redexpert/spec/744053270?ad; Mount: Surface Mount; Operating Temperature Max: 125°C; Operating Temperature Min: -40°C; Packaging: Tape and Reel; Length: 5.8mm; Width: 5.8mm; Height: 2.8mm; DC Resistance: 135mOhm; Inductance: 27uH; Rated Current: 1.05A
footprint WE-TPC_5828
simulation model 5828_744053270_27u
pins: 1, 2

## 744053330
designator L?, comment 33uH, 0.9A  (value not drawn)
WE-TPC SMT Tiny Power Inductor, size 5828, 33uH, 0.9A, 180mOhm; Manufacturer Part Number: 744053330; Manufacturer: Wurth Elektronik; Case/Size Code: 5828; Saturation Current: 0.75A; Self Resonant Frequency: 15MHz; Category: Power Inductors; Match Code: WE-TPC; ComponentLink1Description: Website Link; ComponentLink1URL: https://www.we-online.com/redexpert/article/744053330?ad; ComponentLink2Description: Datasheet Link; ComponentLink2URL: https://www.we-online.com/redexpert/spec/744053330?ad; Mount: Surface Mount; Operating Temperature Max: 125°C; Operating Temperature Min: -40°C; Packaging: Tape and Reel; Length: 5.8mm; Width: 5.8mm; Height: 2.8mm; DC Resistance: 180mOhm; Inductance: 33uH; Rated Current: 0.9A
footprint WE-TPC_5828
simulation model 5828_744053330_33u
pins: 1, 2

## 744053470
designator L?, comment 47uH, 0.82A  (value not drawn)
WE-TPC SMT Tiny Power Inductor, size 5828, 47uH, 0.82A, 220mOhm; Manufacturer Part Number: 744053470; Manufacturer: Wurth Elektronik; Case/Size Code: 5828; Saturation Current: 0.65A; Self Resonant Frequency: 13MHz; Category: Power Inductors; Match Code: WE-TPC; ComponentLink1Description: Website Link; ComponentLink1URL: https://www.we-online.com/redexpert/article/744053470?ad; ComponentLink2Description: Datasheet Link; ComponentLink2URL: https://www.we-online.com/redexpert/spec/744053470?ad; Mount: Surface Mount; Operating Temperature Max: 125°C; Operating Temperature Min: -40°C; Packaging: Tape and Reel; Length: 5.8mm; Width: 5.8mm; Height: 2.8mm; DC Resistance: 220mOhm; Inductance: 47uH; Rated Current: 0.82A
footprint WE-TPC_5828
simulation model 5828_744053470_47u
pins: 1, 2

## 744053680
designator L?, comment 68uH, 0.75A  (value not drawn)
WE-TPC SMT Tiny Power Inductor, size 5828, 68uH, 0.75A, 300mOhm; Manufacturer Part Number: 744053680; Manufacturer: Wurth Elektronik; Case/Size Code: 5828; Saturation Current: 0.56A; Self Resonant Frequency: 10MHz; Category: Power Inductors; Match Code: WE-TPC; ComponentLink1Description: Website Link; ComponentLink1URL: https://www.we-online.com/redexpert/article/744053680?ad; ComponentLink2Description: Datasheet Link; ComponentLink2URL: https://www.we-online.com/redexpert/spec/744053680?ad; Mount: Surface Mount; Operating Temperature Max: 125°C; Operating Temperature Min: -40°C; Packaging: Tape and Reel; Length: 5.8mm; Width: 5.8mm; Height: 2.8mm; DC Resistance: 300mOhm; Inductance: 68uH; Rated Current: 0.75A
footprint WE-TPC_5828
simulation model 5828_744053680_68u
pins: 1, 2

## 744062001
designator L?, comment 1uH, 4.8A  (value not drawn)
WE-TPC SMT Tiny Power Inductor, size 6823, 1uH, 4.8A, 10mOhm; Manufacturer Part Number: 744062001; Manufacturer: Wurth Elektronik; Case/Size Code: 6823; Saturation Current: 4.6A; Self Resonant Frequency: 110MHz; Category: Power Inductors; Match Code: WE-TPC; ComponentLink1Description: Website Link; ComponentLink1URL: https://www.we-online.com/redexpert/article/744062001?ad; ComponentLink2Description: Datasheet Link; ComponentLink2URL: https://www.we-online.com/redexpert/spec/744062001?ad; Mount: Surface Mount; Operating Temperature Max: 125°C; Operating Temperature Min: -40°C; Packaging: Tape and Reel; Length: 6.8mm; Width: 6.8mm; Height: 2.3mm; DC Resistance: 10mOhm; Inductance: 1uH; Rated Current: 4.8A
footprint WE-TPC_6823
simulation model 6823_744062001_1u
pins: 1, 2

## 744062002
designator L?, comment 2.2uH, 3.4A  (value not drawn)
WE-TPC SMT Tiny Power Inductor, size 6823, 2.2uH, 3.4A, 10mOhm; Manufacturer Part Number: 744062002; Manufacturer: Wurth Elektronik; Case/Size Code: 6823; Saturation Current: 2.7A; Self Resonant Frequency: 70MHz; Category: Power Inductors; Match Code: WE-TPC; ComponentLink1Description: Website Link; ComponentLink1URL: https://www.we-online.com/redexpert/article/744062002?ad; ComponentLink2Description: Datasheet Link; ComponentLink2URL: https://www.we-online.com/redexpert/spec/744062002?ad; Mount: Surface Mount; Operating Temperature Max: 125°C; Operating Temperature Min: -40°C; Packaging: Tape and Reel; Length: 6.8mm; Width: 6.8mm; Height: 2.3mm; DC Resistance: 10mOhm; Inductance: 2.2uH; Rated Current: 3.4A
footprint WE-TPC_6823
simulation model 6823_744062002_2.2u
pins: 1, 2

## 744062003
designator L?, comment 3.3uH, 2.8A  (value not drawn)
WE-TPC SMT Tiny Power Inductor, size 6823, 3.3uH, 2.8A, 20mOhm; Manufacturer Part Number: 744062003; Manufacturer: Wurth Elektronik; Case/Size Code: 6823; Saturation Current: 2.5A; Self Resonant Frequency: 55MHz; Category: Power Inductors; Match Code: WE-TPC; ComponentLink1Description: Website Link; ComponentLink1URL: https://www.we-online.com/redexpert/article/744062003?ad; ComponentLink2Description: Datasheet Link; ComponentLink2URL: https://www.we-online.com/redexpert/spec/744062003?ad; Mount: Surface Mount; Operating Temperature Max: 125°C; Operating Temperature Min: -40°C; Packaging: Tape and Reel; Length: 6.8mm; Width: 6.8mm; Height: 2.3mm; DC Resistance: 20mOhm; Inductance: 3.3uH; Rated Current: 2.8A
footprint WE-TPC_6823
simulation model 6823_744062003_3.3u
pins: 1, 2